# EAGLE library part SA571 (library ic)
SA571: Compandor (ON Semiconductor) Dual gain control with range compressor and expandor 15V, 110dB range
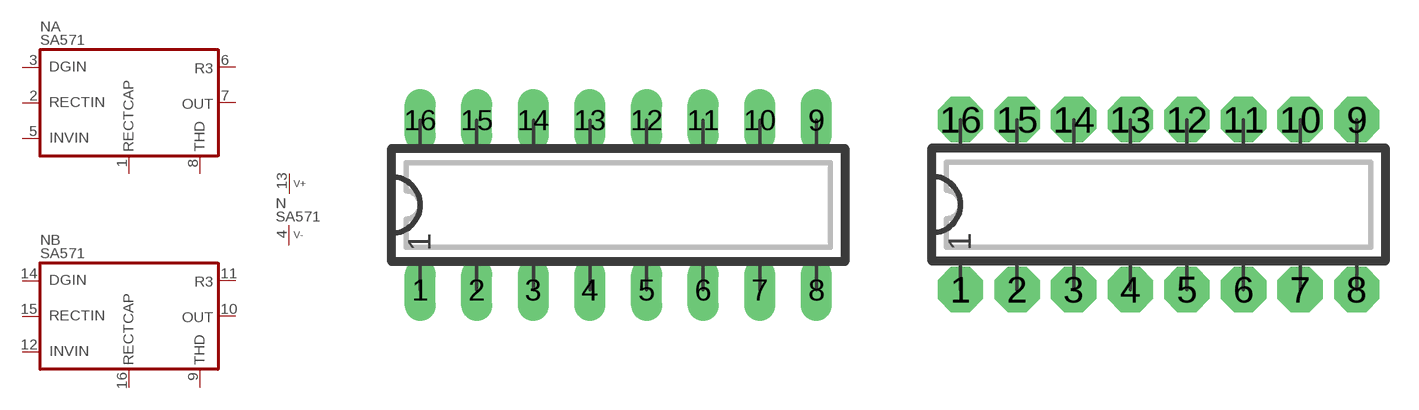
[diagram p101: symbol with the pads of DIP16L; footprints DIP16L, DIP16N]

Designator prefix N; gates A=SA571 B=SA571 P=V+-

## SA571  [DIP16L]
1  A:RECTCAP  pas
2  A:RECTIN  in
3  A:DGIN  in
4  P:V-  pwr
5  A:INVIN  in
6  A:R3  in
7  A:OUT  out
8  A:THD  pas
9  B:THD  pas
10  B:OUT  out
11  B:R3  in
12  B:INVIN  in
13  P:V+  pwr
14  B:DGIN  in
15  B:RECTIN  in
16  B:RECTCAP  pas

## SA571L  [DIP16L]
Pads as for DIP16L

## SA571N  [DIP16N]
Pads as for DIP16L

## SA571R  [DIP16R]
Pads as for DIP16L

## Footprint DIP16L (pad centres in mm)
DIP-16, long pads Standard IC package, 16 pins
drill 0.813 pad 1.397 long: 1 -8.89,-3.81; 2 -6.35,-3.81; 3 -3.81,-3.81; 4 -1.27,-3.81; 5 1.27,-3.81; 6 3.81,-3.81; 7 6.35,-3.81; 8 8.89,-3.81; 9 8.89,3.81; 10 6.35,3.81; 11 3.81,3.81; 12 1.27,3.81; 13 -1.27,3.81; 14 -3.81,3.81; 15 -6.35,3.81; 16 -8.89,3.81

## Footprint DIP16N (pad centres in mm)
DIP-16 Standard IC package, 16 pins
drill 0.813 pad 2.032 octagon: 1 -8.89,-3.81; 2 -6.35,-3.81; 3 -3.81,-3.81; 4 -1.27,-3.81; 5 1.27,-3.81; 6 3.81,-3.81; 7 6.35,-3.81; 8 8.89,-3.81; 9 8.89,3.81; 10 6.35,3.81; 11 3.81,3.81; 12 1.27,3.81; 13 -1.27,3.81; 14 -3.81,3.81; 15 -6.35,3.81; 16 -8.89,3.81

## Footprint DIP16R (pad centres in mm)
DIP-16, reduced pads Standard IC package, 16 pins
drill 0.813 pad 1.397 square: 1 -8.89,-3.81; 2 -6.35,-3.81; 3 -3.81,-3.81; 4 -1.27,-3.81; 5 1.27,-3.81; 6 3.81,-3.81; 7 6.35,-3.81; 8 8.89,-3.81; 9 8.89,3.81; 10 6.35,3.81; 11 3.81,3.81; 12 1.27,3.81; 13 -1.27,3.81; 14 -3.81,3.81; 15 -6.35,3.81; 16 -8.89,3.81